# EAGLE library part 2PMOS (library dubec)
Dual P-channel enhancement mode MOSFET
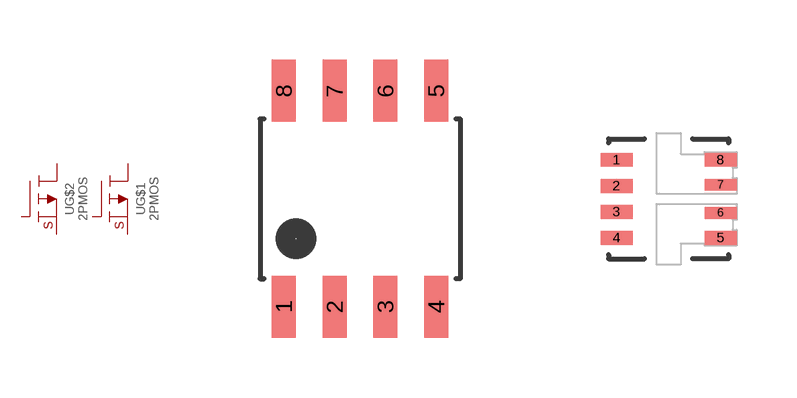
[diagram p10: symbol with the pads of SO-8; footprints SO-8, POWERPAK-1212-8-DUAL]

Designator prefix -; gates G$1=P-MOSFET G$2=P-MOSFET

## 2PMOS40V_5.1A (DIGIKEY_PART_#: DMP4047SSD-13DICT-ND; EURO: 0.74; MANUFACTURER: Diodes Incorporated; MFG_PART_#: DMP4047SSD)  [SO-8]
1  G$1:S  pas
2  G$1:G  pas
3  G$2:S  pas
4  G$2:G  pas
5  G$2:D  pas
6  G$2:D  pas
7  G$1:D  pas
8  G$1:D  pas

## 2PMOS40V_8A (DIGIKEY_PART_#: SI4909DY-T1-GE3CT-ND; EURO: 1.11; MANUFACTURER: Vishay Siliconix; MFG_PART_#: SI4909DY-T1-GE3)  [SO-8]
Pads as for SO-8

## 2PMOS40V_6A (DIGIKEY_PART_#: SI7905DN-T1-GE3CT-ND; EURO: 16.10/10; MANUFACTURER: Vishay Siliconix; MFG_PART_#: SI7905DN-T1-GE3; RDS: 60mOhm @ 5A, 10V)  [POWERPAK-1212-8-DUAL]
Pads as for SO-8

## 2PMOS30V_4.5A (DIGIKEY_PART_#: SIA931DJ-T1-GE3CT-ND; EURO: 30.58/100; MANUFACTURER: Vishay Siliconix; MFG_PART_#: SIA931DJ-T1-GE3; RDS: 65 mOhm @ 3A, 10V)  [SC70-6L-CS]
1  G$1:S  pas
2  G$1:G  pas
3  G$2:D  pas
4  G$2:S  pas
5  G$2:G  pas
6  G$1:D  pas
D1  G$1:D  pas
D2  G$2:D  pas

## 2PMOS30V_2A (DIGIKEY_PART_#: 785-1466-1-ND; EURO: 8.07/25; MANUFACTURER: Alpha & Omega Semiconductor Inc.; MFG_PART_#: AO6801E; POWER: 0.7W; RDS: 110 mOhm @ 2A, 10V)  [6-TSOP]
1  G$1:G  pas
2  G$2:S  pas
3  G$2:G  pas
4  G$2:D  pas
5  G$1:S  pas
6  G$1:D  pas

## 2PMOS50V_0.17A (DIGIKEY_PART_#: 568-10474-1-ND; EPK: 103.10; MANUFACTURER: NXP Semiconductors; MFG_PART_#: BSS84AKV,115; POWER: 0.5W; RDS: 7.5 Ohm @ 100mA, 10V; TEMP: -55°C ~ 150°C (TJ))  [SOT-666]
1  G$1:S  pas
2  G$1:G  pas
3  G$2:D  pas
4  G$2:S  pas
5  G$2:G  pas
6  G$1:D  pas

## Footprint SO-8 (pad centres in mm)
smd 0.6 x 1.55: 1 -1.905,-2.7; 2 -0.635,-2.7; 3 0.635,-2.7; 4 1.905,-2.7; 5 1.905,2.7; 6 0.635,2.7; 7 -0.635,2.7; 8 -1.905,2.7

## Footprint POWERPAK-1212-8-DUAL (pad centres in mm)
smd 0.8 x 0.35: 1 -1.3,0.975; 2 -1.3,0.325; 3 -1.3,-0.325; 4 -1.3,-0.975; 5 1.3,-0.975; 8 1.3,0.975
smd 0.8 x 0.3: 6 1.3,-0.35; 7 1.3,0.35

## Footprint SC70-6L-CS (pad centres in mm)
smd 0.3 x 0.3: 1 -0.65,-0.9; 2 0,-0.9; 3 0.65,-0.9; 4 0.65,0.9; 5 0,0.9; 6 -0.65,0.9
smd 0.2 x 0.2: D1 -0.6,0.2; D2 0.6,-0.2

## Footprint 6-TSOP (pad centres in mm)
smd 0.5 x 0.7: 1 -1,-1.2; 2 0,-1.2; 3 1,-1.2; 4 1,1.2; 5 0,1.2; 6 -1,1.2

## Footprint SOT-666 (pad centres in mm)
smd 0.25 x 0.4: 1 -0.5,-0.7; 2 0,-0.7; 3 0.5,-0.7; 4 0.5,0.7; 5 0,0.7; 6 -0.5,0.7